# Altium footprint library PCB_Terminal_Block_Pcb.PcbLib: 27 footprints (part 2 of 2)
Each footprint in its own frame and in the unit in brackets; x right, y up, seen from the top. Pads: shape width x height; smd on the part's side, far side on the other; paste and mask are expansions set on the pad; w line width, h text height; cw(c..) or ccw(c..) is an arc to the next point about the centre after c.
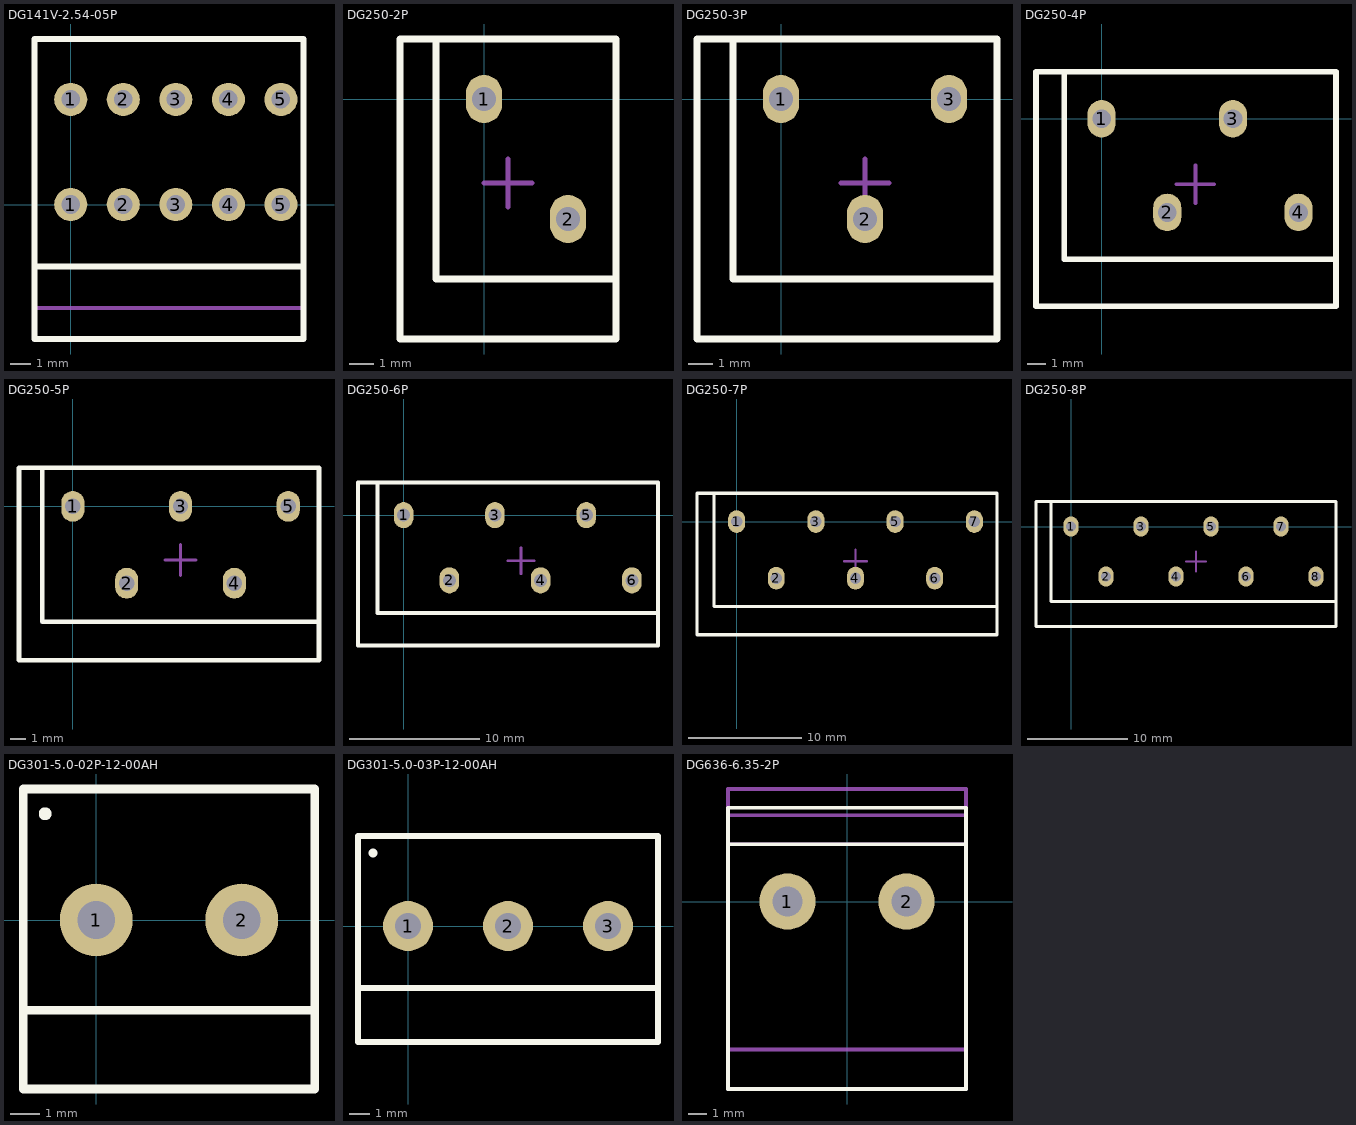
[diagram p1: the footprints below, top view; thin cyan lines are the x and y axes]

## DG141V-2.54-05P [mm]
pads (10):
  round 1.6 hole 0.9: 1(0,0) 1(0,5.08) 2(2.54,0) 2(2.54,5.08) 3(5.08,0) 3(5.08,5.08) 4(7.62,0) 4(7.62,5.08) 5(10.16,0) 5(10.16,5.08)
Top Overlay:
  lines w0.3: -1.75,-3 11.25,-3 ; -1.75,-6.5 11.25,-6.5 11.25,8 -1.75,8 -1.75,-6.5
Mechanical 13:
  lines w0.2: -1.75,-5 -1.75,8 11.25,8 11.25,-5 -1.75,-5
  text ".Designator" at 0.75,-3.468 h1.5
Mechanical 15:
  lines w0.2: -1.75,-5 -1.75,8 11.25,8 11.25,-5 -1.75,-5
3D body "DG141V.step": height 13.61, standoff -3.49, extent 8.52,-4.7 11.06,7.9
3D body "DG141V.step": height 13.61, standoff -3.49, extent 5.98,-4.7 8.52,7.9
3D body "DG141V.step": height 13.61, standoff -3.49, extent 3.44,-4.7 5.98,7.9
3D body "DG141V.step": height 13.61, standoff -3.49, extent 0.9,-4.7 3.44,7.9
3D body "DG141V.step": height 13.61, standoff -3.49, extent -1.64,-4.7 0.9,7.9

## DG250-2P [mm]
pads (2):
  oval 1.5x2 hole 1 unplated: 1(0,0) 2(3.5,-5)
Top Overlay:
  lines w0.3: -2,2.5 -2,-7.5 5.5,-7.5 ; -3.5,-10 -3.5,2.5 5.5,2.5 5.5,-10 -3.5,-10
Mechanical 13:
  lines w0.2: -3.5,-10 -3.5,2.5 5.5,2.5 5.5,-10 -3.5,-10
Mechanical 15:
  lines w0.2: 0,-3.5 2,-3.5 ; 1,-4.5 1,-2.5 ; -3.5,-10 -3.5,2.5 5.5,2.5 5.5,-10 -3.5,-10
3D body "DG250-3.5-02P-11-00AH.stp": height 13.11, standoff -3.59, extent -3.25,-9.75 5.25,2.25

## DG250-3P [mm]
pads (3):
  oval 1.5x2 hole 1 unplated: 1(0,0) 2(3.5,-5) 3(7,0)
Top Overlay:
  lines w0.3: -2,2.5 -2,-7.5 9,-7.5 ; -3.5,-10 9,-10 9,2.5 -3.5,2.5 -3.5,-10
Mechanical 13:
  lines w0.2: -3.5,-10 9,-10 9,2.5 -3.5,2.5 -3.5,-10
Mechanical 15:
  lines w0.2: 2.5,-3.5 4.5,-3.5 ; 3.5,-4.5 3.5,-2.5 ; -3.5,-10 9,-10 9,2.5 -3.5,2.5 -3.5,-10
3D body "DG250-3.5-03P-11-00AH.stp": height 13.11, standoff -3.59, extent -3.25,-9.75 8.75,2.25

## DG250-4P [mm]
pads (4):
  oval 1.5x2 hole 1 unplated: 1(0,0) 2(3.5,-5) 3(7,0) 4(10.5,-5)
Top Overlay:
  lines w0.3: -2,2.5 -2,-7.5 12.5,-7.5 ; -3.5,-10 -3.5,2.5 12.5,2.5 12.5,-10 -3.5,-10
Mechanical 13:
  lines w0.2: -3.5,-10 -3.5,2.5 12.5,2.5 12.5,-10 -3.5,-10
Mechanical 15:
  lines w0.2: 4,-3.5 6,-3.5 ; 5,-4.5 5,-2.5 ; -3.5,-10 -3.5,2.5 12.5,2.5 12.5,-10 -3.5,-10
3D body "DG250-3.5-04P-11-00AH.stp": height 13.11, standoff -3.59, extent -3.25,-9.75 12.25,2.25

## DG250-5P [mm]
pads (5):
  oval 1.5x2 hole 1 unplated: 1(0,0) 2(3.5,-5) 3(7,0) 4(10.5,-5) 5(14,0)
Top Overlay:
  lines w0.3: -2,2.5 -2,-7.5 16,-7.5 ; -3.5,-10 -3.5,2.5 16,2.5 16,-10 -3.5,-10
Mechanical 13:
  lines w0.2: -3.5,-10 -3.5,2.5 16,2.5 16,-10 -3.5,-10
Mechanical 15:
  lines w0.2: 6,-3.5 8,-3.5 ; 7,-4.5 7,-2.5 ; -3.5,-10 -3.5,2.5 16,2.5 16,-10 -3.5,-10
3D body "DG250-3.5-05P-11-00AH.stp": height 13.11, standoff -3.59, extent -3.25,-9.75 15.75,2.25

## DG250-6P [mm]
pads (6):
  oval 1.5x2 hole 1 unplated: 1(0,0) 2(3.5,-5) 3(7,0) 4(10.5,-5) 5(14,0) 6(17.5,-5)
Top Overlay:
  lines w0.3: -2,2.5 -2,-7.5 19.5,-7.5 ; -3.5,-10 19.5,-10 19.5,2.5 -3.5,2.5 -3.5,-10
Mechanical 13:
  lines w0.2: -3.5,-10 19.5,-10 19.5,2.5 -3.5,2.5 -3.5,-10
Mechanical 15:
  lines w0.2: 8,-3.5 10,-3.5 ; 9,-4.5 9,-2.5 ; -3.5,-10 19.5,-10 19.5,2.5 -3.5,2.5 -3.5,-10
3D body "DG250-3.5-06P-11-00AH.stp": height 13.11, standoff -3.59, extent -3.25,-9.75 19.25,2.25

## DG250-7P [mm]
pads (7):
  oval 1.5x2 hole 1 unplated: 1(0,0) 2(3.5,-5) 3(7,0) 4(10.5,-5) 5(14,0) 6(17.5,-5) 7(21,0)
Top Overlay:
  lines w0.3: -2,2.5 -2,-7.5 23,-7.5 ; -3.5,-10 -3.5,2.5 23,2.5 23,-10 -3.5,-10
Mechanical 13:
  lines w0.2: -3.5,-10 -3.5,2.5 23,2.5 23,-10 -3.5,-10
Mechanical 15:
  lines w0.2: 9.5,-3.5 11.5,-3.5 ; 10.5,-4.5 10.5,-2.5 ; -3.5,-10 -3.5,2.5 23,2.5 23,-10 -3.5,-10
3D body "DG250-3.5-07P-11-00AH.stp": height 13.11, standoff -3.59, extent -3.25,-9.75 22.75,2.25

## DG250-8P [mm]
pads (8):
  oval 1.5x2 hole 1 unplated: 1(0,0) 2(3.5,-5) 3(7,0) 4(10.5,-5) 5(14,0) 6(17.5,-5) 7(21,0) 8(24.5,-5)
Top Overlay:
  lines w0.3: -2,2.5 -2,-7.5 26.5,-7.5 ; -3.5,-10 26.5,-10 26.5,2.5 -3.5,2.5 -3.5,-10
Mechanical 13:
  lines w0.2: -3.5,-10 26.5,-10 26.5,2.5 -3.5,2.5 -3.5,-10
Mechanical 15:
  lines w0.2: 11.5,-3.5 13.5,-3.5 ; 12.5,-4.5 12.5,-2.5 ; -3.5,-10 26.5,-10 26.5,2.5 -3.5,2.5 -3.5,-10
3D body "DG250-3.5-08P-11-00AH.stp": height 13.11, standoff -3.59, extent -3.25,-9.75 26.25,2.25

## DG301-5.0-02P-12-00AH [mm]
pads (2):
  round 2.5 hole 1.3: 1(0,0) 2(5,0)
Top Overlay:
  circle w0.3: c-1.75,3.65 r0.071
  lines w0.3: -2.5,-3.1 7.5,-3.1 ; -2.5,-5.8 7.5,-5.8 7.5,1.4 7.5,4.5 -2.5,4.5 -2.5,-5.8
Mechanical 13:
  circle w0.2: c-1.75,3.65 r0.071
  lines w0.2: -2.5,-3.1 7.5,-3.1 ; -2.5,-3.1 7.5,-3.1 ; -2.5,-3.1 -2.5,4.5 0,4.5 5,4.5 7.5,4.5 7.5,1.4 7.5,-3.1
  text "'.Designator'" at -1.846,-0.046 h1.5
Mechanical 15:
  lines w0.2: -2.5,-5.8 7.5,-5.8 7.5,4.5 -2.5,4.5 -2.5,-5.8
3D body "DG301-5_0-2P12.STEP": height 10, standoff -4.16, extent -3.1,-3.4 7.5,4.2

## DG301-5.0-03P-12-00AH [mm]
pads (3):
  round 2.5 hole 1.3: 1(0,0) 2(5,0) 3(10,0)
Top Overlay:
  circle w0.3: c-1.75,3.65 r0.071
  lines w0.3: -2.5,-3.1 12.5,-3.1 ; -2.5,-5.8 -2.5,4.5 12.5,4.5 12.5,-5.8 -2.5,-5.8
Mechanical 13:
  circle w0.2: c-1.75,3.65 r0.071
  lines w0.2: -2.5,-3.1 -2.5,4.5 12.5,4.5 12.5,-3.1 -2.5,-3.1
  text "'.Designator'" at -1.846,-0.046 h1.5
Mechanical 15:
  lines w0.2: -2.5,-5.8 -2.5,4.5 12.5,4.5 12.5,-5.8 -2.5,-5.8
3D body "DG301-5_0-3P12.STEP": height 10, standoff -4.16, extent -3.1,-3.4 12.5,4.2

## DG636-6.35-2P [mm]
pads (2):
  round 3 hole 1.6: 1(-3.175,0) 2(3.175,0)
Top Overlay:
  lines w0.2: -6.35,3.048 6.35,3.048 ; -6.35,-10 -6.35,5 6.35,5 6.35,-10 -6.35,-10
Mechanical 13:
  lines w0.2: -6.35,-7.9 -6.35,4.6 6.35,4.6 6.35,-7.9 -6.35,-7.9
  text "'.Designator'" at -5.646,-6.246 h1.5
Mechanical 15:
  lines w0.2: -6.35,3.048 6.35,3.048 ; -6.35,-10 -6.35,6 6.35,6 6.35,-10 -6.35,-10
3D body "Ph contact 635-2P PCB Terminal.stp": height 21.51, standoff -4.99, extent -6.889,-7.928 6.381,4.572